# Altium schematic symbol library IC.SchLib: 188 symbols (part 2 of 2)
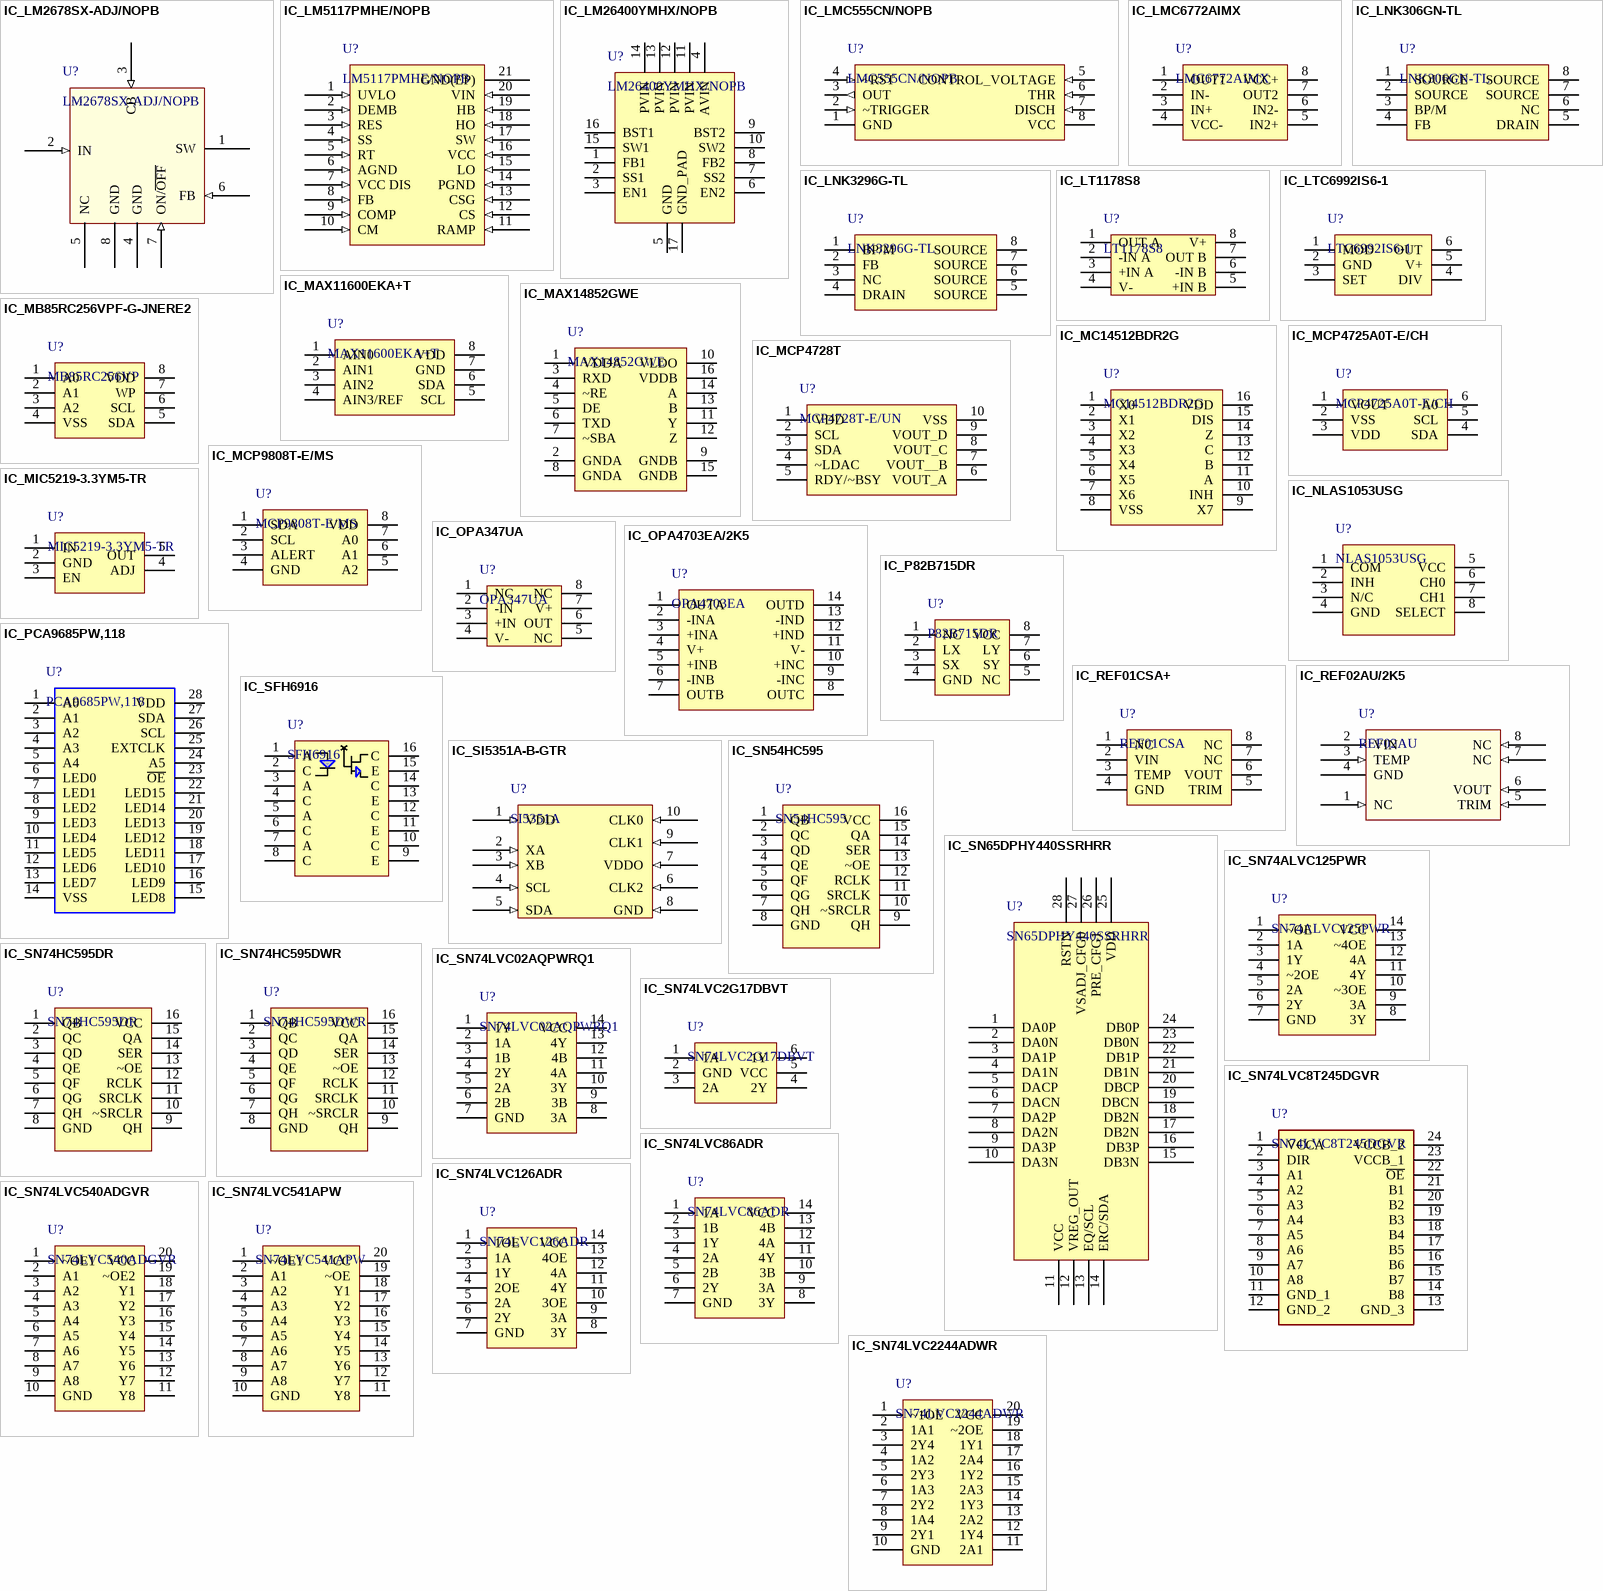
[diagram p7: symbols IC_LM2678SX-ADJ/NOPB to IC_SN74LVC2244ADWR]

## IC_SI5351A-B-GTR
designator U?, comment SI5351A
Clock Generators & Support Products I2C Prog, Any Frequency, Any Output, Xtal Ref, 3-Output LVCMOS Clock Gen; Manufacturer: Silicon Labs; Manufacturer Part Number: SI5351A-B-GTR; Alternate Part Number-1: NA; Case/Package: SSOP10; Supplier-1: ARROW; Supplier Part Number-1: SI5351A-B-GTR
footprint SSOP10_19_236_55X11_SMD
pins: 1 VDD (in), 2 XA (in), 3 XB (in), 4 SCL (in), 5 SDA (in), 6 CLK2 (in), 7 VDDO (in), 8 GND (in), 9 CLK1 (in), 10 CLK0 (in)

## IC_SN54HC595
designator U?, comment SN54HC595
Parallel-out shift register IC_SN54HC595 The SNx4HC595 devices contain an 8-bit, serial-in, / 1• 8-Bit Serial-In; Manufacturer: Texas Instruments; Alternate Part Number-1: NA; Manufacturer Part Number: SN54HC595; Case/Package: TSSOP16; Supplier-1: ARROW; Supplier Part Number-1: SN54HC595
footprint TSSOP16_25-59_294_54X14_SMT (TSOP, 16-Leads, Body 5.00x4.40mm, Pitch 0.65mm)
pins: 1 QB, 2 QC, 3 QD, 4 QE, 5 QF, 6 QG, 7 QH, 8 GND, 9 QH, 10 ~SRCLR, 11 SRCLK, 12 RCLK, 13 ~OE, 14 SER, 15 QA, 16 VCC

## IC_SN65DPHY440SSRHRR
designator U?, comment SN65DPHY440SSRHRR
Video IC 28-WQFN (5.5x3.5) Package; Manufacturer: Texas Instruments; Alternate Part Number-1: NA; Manufacturer Part Number: SN65DPHY440SSRHRR; Case/Package: 28-WQFN; Supplier-1: Digikey; Supplier Part Number-1: 296-44524-1-ND
footprint WQFN-28_19.7_186_33.8X10_SMD (WQFN Package)
pins: 1 DA0P, 2 DA0N, 3 DA1P, 4 DA1N, 5 DACP, 6 DACN, 7 DA2P, 8 DA2N, 9 DA3P, 10 DA3N, 11 VCC, 12 VREG_OUT, 13 EQ/SCL, 14 ERC/SDA, 15 DB3N, 16 DB3P, 17 DB2N, 18 DB2N, 19 DBCN, 20 DBCP, 21 DB1N, 22 DB1P, 23 DB0N, 24 DB0P, 25 VDD, 26 PRE_CFG1, 27 VSADJ_CFG0, 28 RSTN

## IC_SN74ALVC125PWR
designator U?, comment SN74ALVC125PWR
Buffer, Non-Inverting 4 Element 1 Bit per Element 3-State Output 14-TSSOP; Manufacturer: Texas Instruments; Alternate Part Number-1: NA; Manufacturer Part Number: SN74ALVC125PWR; Case/Package: TSSOP14; Supplier-1: ARROW; Supplier Part Number-1: SN74ALVC125PWR
footprint TSSOP14_25.6_296_15X55_SMD (CASE: TSSOP)
pins: 1 ~OE, 2 1A, 3 1Y, 4 ~2OE, 5 2A, 6 2Y, 7 GND, 8 3Y, 9 3A, 10 ~3OE, 11 4Y, 12 4A, 13 ~4OE, 14 VCC

## IC_SN74HC595DR
designator U?, comment SN74HC595DR
Shift Shift Register 1 Element 8 Bit 16-SOIC; Manufacturer: TI; Alternate Part Number-1: NA; Manufacturer Part Number: SN74HC595DR; Case/Package: 16-SOIC; Supplier-1: Digikey; Supplier Part Number-1: 296-14857-1-ND
footprint SOIC16_50_284_25X90_SMT
pins: 1 QB, 2 QC, 3 QD, 4 QE, 5 QF, 6 QG, 7 QH, 8 GND, 9 QH, 10 ~SRCLR, 11 SRCLK, 12 RCLK, 13 ~OE, 14 SER, 15 QA, 16 VCC

## IC_SN74HC595DWR
designator U?, comment SN74HC595DWR
Shift Shift Register 1 Element 8 Bit 16-SOIC; Manufacturer: Texas Instruments; Alternate Part Number-1: NA; Manufacturer Part Number: SN74HC595DWR; Case/Package: SOICW-16; Supplier-1: ARROW; Supplier Part Number-1: SN74HC595DWR
footprint SOICW16_50_440_25X76_SMT (SOICW)
pins: 1 QB, 2 QC, 3 QD, 4 QE, 5 QF, 6 QG, 7 QH, 8 GND, 9 QH, 10 ~SRCLR, 11 SRCLK, 12 RCLK, 13 ~OE, 14 SER, 15 QA, 16 VCC

## IC_SN74LVC02AQPWRQ1
designator U?, comment SN74LVC02AQPWRQ1
NOR Gate IC 4 Channel 14-TSSOP; Manufacturer: Texas Instruments; Alternate Part Number-1: NA; Manufacturer Part Number: SN74LVC02AQPWRQ1; Case/Package: TSSOP-14; Supplier-1: Arrow; Supplier Part Number-1: SN74LVC02AQPWRQ1
footprint TSSOP14_25.6_296_15X55_SMD (CASE: TSSOP)
pins: 1 1Y, 2 1A, 3 1B, 4 2Y, 5 2A, 6 2B, 7 GND, 8 3A, 9 3B, 10 3Y, 11 4A, 12 4B, 13 4Y, 14 VCC

## IC_SN74LVC2G17DBVT
designator U?, comment SN74LVC2G17DBVT
Buffer, Non-Inverting 2 Element 1 Bit per Element Push-Pull Output SOT-23-6; Manufacturer: Texas Instruments; Alternate Part Number-1: NA; Manufacturer Part Number: SN74LVC2G17DBVT; Case/Package: SOT23-6; Supplier-1: ARROW; Supplier Part Number-1: SN74LVC2G17DBVT
footprint SOT23-6
pins: 1 1A, 2 GND, 3 2A, 4 2Y, 5 VCC, 6 1Y

## IC_SN74LVC8T245DGVR
designator U?, comment SN74LVC8T245DGVR
Voltage Level Translator Bidirectional 1 Circuit 8 Channel 24-TVSOP; Manufacturer: Texas Instruments; Alternate Part Number-1: NA; Manufacturer Part Number: SN74LVC8T245DGVR; Case/Package: 24TVSOP; Supplier-1: ARROW; Supplier Part Number-1: SN74LVC8T245DGVR
footprint TVSOP-24_15.7_290_58x7.7_smd (IC TRNSLTR BIDIRECTIONAL 24TVSOP)
pins: 1 VCCA, 2 DIR, 3 A1, 4 A2, 5 A3, 6 A4, 7 A5, 8 A6, 9 A7, 10 A8, 11 GND_1, 12 GND_2, 13 GND_3, 14 B8, 15 B7, 16 B6, 17 B5, 18 B4, 19 B3, 20 B2, 21 B1, 22 ~{OE}, 23 VCCB_1, 24 VCCB_2

## IC_SN74LVC86ADR
designator U?, comment SN74LVC86ADR
XOR (Exclusive OR) IC 4 Channel 14-SOIC; Manufacturer: Texas Instruments; Alternate Part Number-1: NA; Manufacturer Part Number: SN74LVC86ADR; Case/Package: 14-SOIC; Supplier-1: Arrow; Supplier Part Number-1: SN74LVC86ADR
footprint SOIC14_50_285_80X25_SMT (SOIC, 14-Leads, Body 8.56x3.90mm, Pitch 1.27mm, IPC Medium Density)
pins: 1 1A, 2 1B, 3 1Y, 4 2A, 5 2B, 6 2Y, 7 GND, 8 3Y, 9 3A, 10 3B, 11 4Y, 12 4A, 13 4B, 14 VCC

## IC_SN74LVC126ADR
designator U?, comment SN74LVC126ADR
Buffer, Non-Inverting 4 Element 1 Bit per Element 3-State Output 14-SOIC; Manufacturer: Texas Instruments; Alternate Part Number-1: NA; Manufacturer Part Number: SN74LVC126ADR; Case/Package: SOIC-14; Supplier-1: Arrow; Supplier Part Number-1: SN74LVC126ADR
footprint SOIC14_50_285_80X25_SMT (SOIC, 14-Leads, Body 8.56x3.90mm, Pitch 1.27mm, IPC Medium Density)
pins: 1 1OE, 2 1A, 3 1Y, 4 2OE, 5 2A, 6 2Y, 7 GND, 8 3Y, 9 3A, 10 3OE, 11 4Y, 12 4A, 13 4OE, 14 VCC

## IC_SN74LVC540ADGVR
designator U?, comment SN74LVC540ADGVR
Buffer, Inverting 1 Element 8 Bit per Element 3-State Output 20-TVSOP; Manufacturer: Texas Instruments; Alternate Part Number-1: NA; Manufacturer Part Number: SN74LVC540ADGVR; Case/Package: TVSOP-20; Supplier-1: Arrow; Supplier Part Number-1: SN74LVC540ADGVR
footprint TVSOP20_15.74_303_9x82.6_SMD (TVSOP Package)
pins: 1 ~OE1, 2 A1, 3 A2, 4 A3, 5 A4, 6 A5, 7 A6, 8 A7, 9 A8, 10 GND, 11 Y8, 12 Y7, 13 Y6, 14 Y5, 15 Y4, 16 Y3, 17 Y2, 18 Y1, 19 ~OE2, 20 VCC

## IC_SN74LVC541APW
designator U?, comment SN74LVC541APW
Buffer/Line Driver 8-CH Non-Inverting 3-ST CMOS 20-Pin TSSOP Tube; Manufacturer: Texas Instruments; Alternate Part Number-1: NA; Manufacturer Part Number: SN74LVC541APW; Case/Package: TSSOP-20; Supplier-1: Arrow; Supplier Part Number-1: SN74LVC541APW
footprint TSSOP20_25-59_292_12X65_SMT
pins: 1 ~OE1, 2 A1, 3 A2, 4 A3, 5 A4, 6 A5, 7 A6, 8 A7, 9 A8, 10 GND, 11 Y8, 12 Y7, 13 Y6, 14 Y5, 15 Y4, 16 Y3, 17 Y2, 18 Y1, 19 ~OE, 20 VCC

## IC_SN74LVC2244ADWR
designator U?, comment SN74LVC2244ADWR
Buffer, Non-Inverting 2 Element 4 Bit per Element 3-State Output 20-SOIC; Manufacturer: Texas Instruments; Alternate Part Number-1: NA; Manufacturer Part Number: SN74LVC2244ADWR; Case/Package: SOIC-20; Supplier-1: Digikey; Supplier Part Number-1: 296-8490-1-ND
footprint SOIC20_50_284_25X90_SMT
pins: 1 ~1OE, 2 1A1, 3 2Y4, 4 1A2, 5 2Y3, 6 1A3, 7 2Y2, 8 1A4, 9 2Y1, 10 GND, 11 2A1, 12 1Y4, 13 2A2, 14 1Y3, 15 2A3, 16 1Y2, 17 2A4, 18 1Y1, 19 ~2OE, 20 VCC

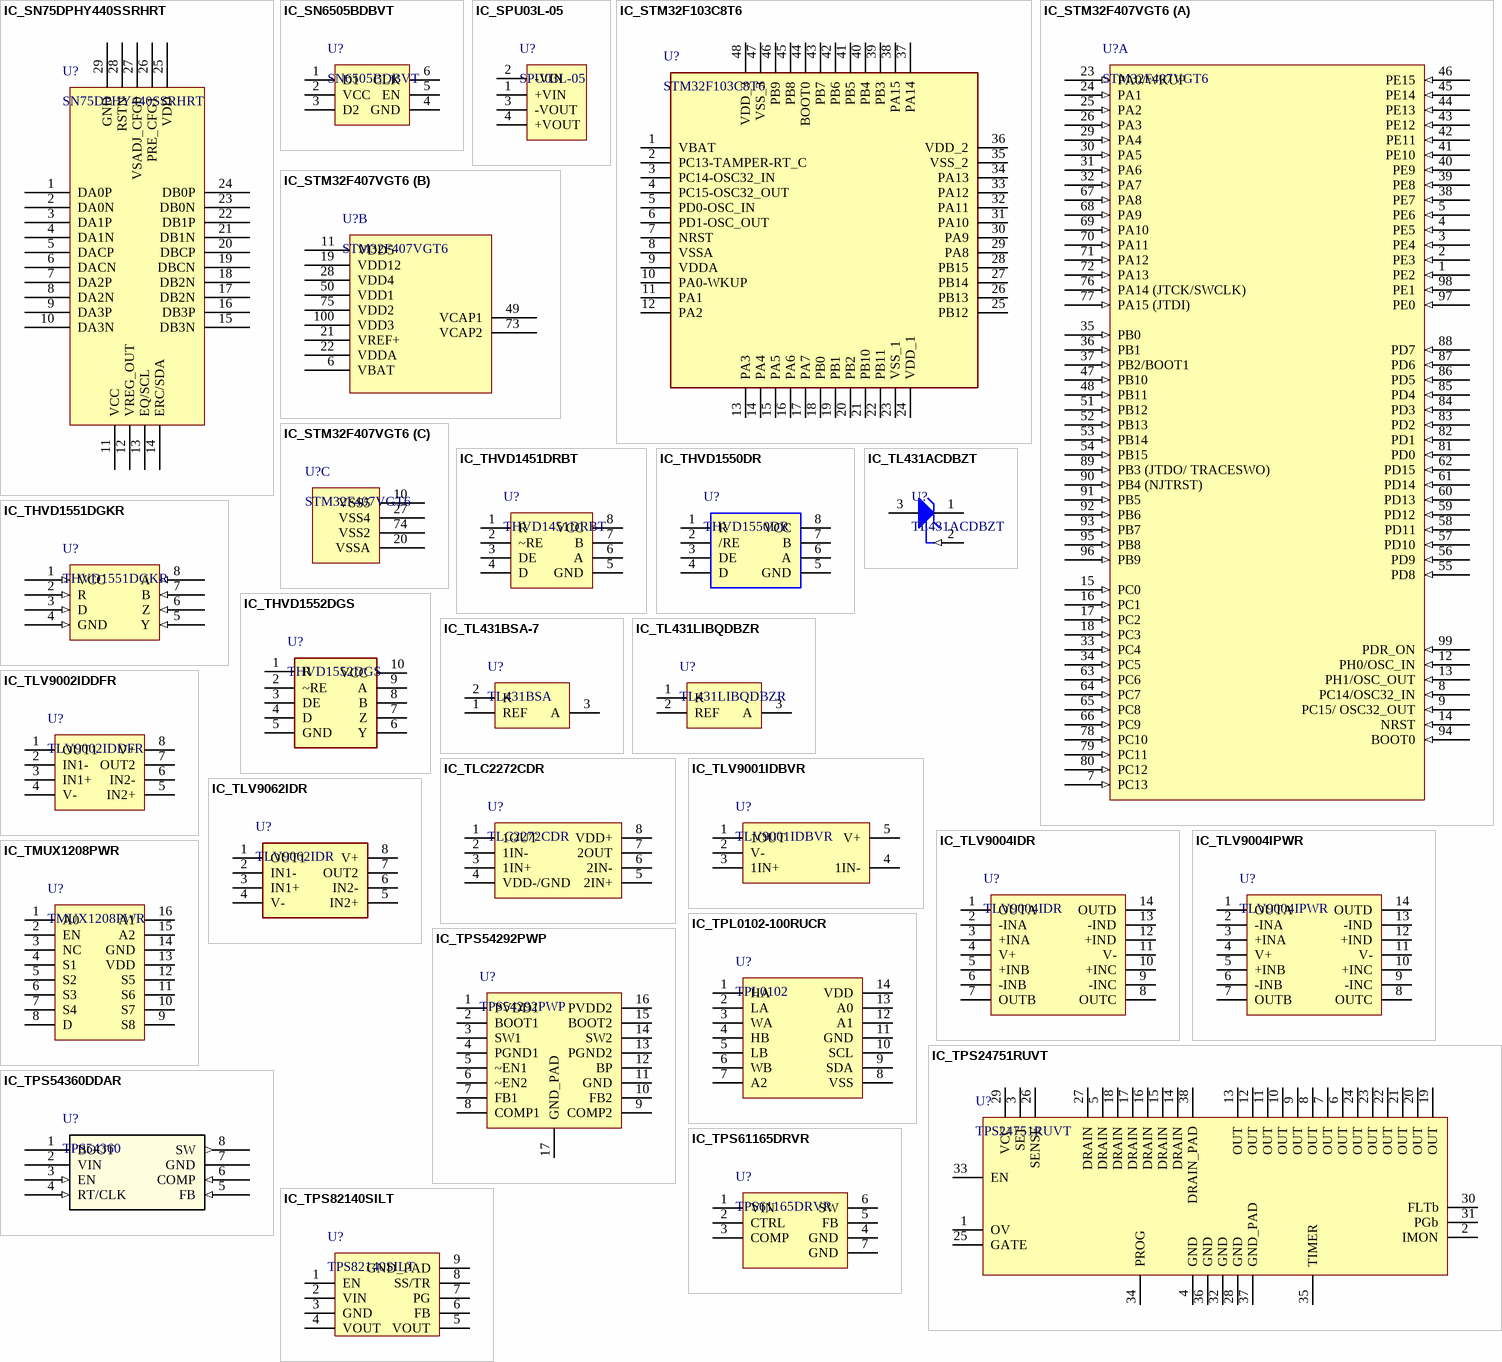
[diagram p4: symbols IC_SN75DPHY440SSRHRT to IC_TPS82140SILT]

## IC_SN75DPHY440SSRHRT
designator U?, comment SN75DPHY440SSRHRT
Video IC 28-WQFN (5.5x3.5) Package; Manufacturer: Texas Instruments; Alternate Part Number-1: NA; Manufacturer Part Number: SN75DPHY440SSRHRT; Case/Package: 28-WQFN; Supplier-1: Digikey; Supplier Part Number-1: 296-44524-1-ND
footprint WQFN-28_19.7_186_33.8X10_SMD (WQFN Package)
pins: 1 DA0P, 2 DA0N, 3 DA1P, 4 DA1N, 5 DACP, 6 DACN, 7 DA2P, 8 DA2N, 9 DA3P, 10 DA3N, 11 VCC, 12 VREG_OUT, 13 EQ/SCL, 14 ERC/SDA, 15 DB3N, 16 DB3P, 17 DB2N, 18 DB2N, 19 DBCN, 20 DBCP, 21 DB1N, 22 DB1P, 23 DB0N, 24 DB0P, 25 VDD, 26 PRE_CFG1, 27 VSADJ_CFG0, 28 RSTN, 29 GND

## IC_SN6505BDBVT
designator U?, comment SN6505BDBVT
Transformer Driver PMIC SOT-23-6; Manufacturer: Texas Instruments; Alternate Part Number-1: NA; Manufacturer Part Number: SN6505BDBVT; Case/Package: SOT23-6; Supplier-1: ARROW; Supplier Part Number-1: SN6505BDBVT
footprint SOT23-6 (CASE: SOT)
pins: 1 D1, 2 VCC, 3 D2, 4 GND, 5 EN, 6 CLK

## IC_SPU03L-05
designator U?, comment SPU03L-05
Isolated Module DC DC Converter 1 Output 5V 600mA 4.5V - 5.5V Input; Manufacturer: Mean Well; Alternate Part Number-1: NA; Manufacturer Part Number: SPU03L-05; Case/Package: SPU03L-TH; Supplier-1: ARROW; Supplier Part Number-1: SPU03L-05
footprint SPU03L-05_100_787_35D70_TH (SPU03)
pins: 1 +VIN, 2 -VIN, 3 -VOUT, 4 +VOUT

## IC_STM32F103C8T6
designator U?, comment STM32F103C8T6
ARM® Cortex®-M3 STM32F1 Microcontroller IC 32-Bit 72MHz 64KB (64K x 8) FLASH 48-LQFP (7x7) /; Manufacturer: STMicroelectronics; Alternate Part Number-1: NA; Manufacturer Part Number: STM32F103C8T6; Case/Package: LQFP48; Supplier-1: LCSC; Supplier Part Number-1: STM32F103C8T6
footprint LQFP-48_19.6_393_58X11_SMD (48LQFP)
pins: 1 VBAT, 2 PC13-TAMPER-RT_C, 3 PC14-OSC32_IN, 4 PC15-OSC32_OUT, 5 PD0-OSC_IN, 6 PD1-OSC_OUT, 7 NRST, 8 VSSA, 9 VDDA, 10 PA0-WKUP, 11 PA1, 12 PA2, 13 PA3, 14 PA4, 15 PA5, 16 PA6, 17 PA7, 18 PB0, 19 PB1, 20 PB2, 21 PB10, 22 PB11, 23 VSS_1, 24 VDD_1, 25 PB12, 26 PB13, 27 PB14, 28 PB15, 29 PA8, 30 PA9, 31 PA10, 32 PA11, 33 PA12, 34 PA13, 35 VSS_2, 36 VDD_2, 37 PA14, 38 PA15, 39 PB3, 40 PB4, 41 PB5, 42 PB6, 43 PB7, 44 BOOT0, 45 PB8, 46 PB9, 47 VSS_3, 48 VDD_3

## IC_STM32F407VGT6
designator U?, comment STM32F407VGT6
ARM® Cortex®-M4 STM32F4 Microcontroller IC 32-Bit 168MHz 1MB (1M x 8) FLASH 100-LQFP (14x14) /; Manufacturer: STMicroelectronics; Alternate Part Number-1: STM32F407VET6; Manufacturer Part Number: STM32F407VGT6; Case/Package: LQFP100; Supplier-1: ARROW; Supplier Part Number-1: STM32F407VGT6
footprint QFN100_19.6_669_58X10_SMD (CASE: QFN)
part A pins: 1 PE2 (in), 2 PE3 (in), 3 PE4 (in), 4 PE5 (in), 5 PE6 (in), 7 PC13 (in), 8 PC14/OSC32_IN (in), 9 PC15/ OSC32_OUT (in), 12 PH0/OSC_IN (in), 13 PH1/OSC_OUT (in), 14 NRST (in), 15 PC0 (in), 16 PC1 (in), 17 PC2 (in), 18 PC3 (in), 23 PA0/WKUP (in), 24 PA1 (in), 25 PA2 (in), 26 PA3 (in), 29 PA4 (in), 30 PA5 (in), 31 PA6 (in), 32 PA7 (in), 33 PC4 (in), 34 PC5 (in), 35 PB0 (in), 36 PB1 (in), 37 PB2/BOOT1 (in), 38 PE7 (in), 39 PE8 (in), 40 PE9 (in), 41 PE10 (in), 42 PE11 (in), 43 PE12 (in), 44 PE13 (in), 45 PE14 (in), 46 PE15 (in), 47 PB10 (in), 48 PB11 (in), 51 PB12 (in), 52 PB13 (in), 53 PB14 (in), 54 PB15 (in), 55 PD8 (in), 56 PD9 (in), 57 PD10 (in), 58 PD11 (in), 59 PD12 (in), 60 PD13 (in), 61 PD14 (in), 62 PD15 (in), 63 PC6 (in), 64 PC7 (in), 65 PC8 (in), 66 PC9 (in), 67 PA8 (in), 68 PA9 (in), 69 PA10 (in), 70 PA11 (in), 71 PA12 (in), 72 PA13 (in), 76 PA14 (JTCK/SWCLK) (in), 77 PA15 (JTDI) (in), 78 PC10 (in), 79 PC11 (in), 80 PC12 (in), 81 PD0 (in), 82 PD1 (in), 83 PD2 (in), 84 PD3 (in), 85 PD4 (in), 86 PD5 (in), 87 PD6 (in), 88 PD7 (in), 89 PB3 (JTDO/ TRACESWO) (in), 90 PB4 (NJTRST) (in), 91 PB5 (in), 92 PB6 (in), 93 PB7 (in), 94 BOOT0 (in), 95 PB8 (in), 96 PB9 (in), 97 PE0 (in), 98 PE1 (in), 99 PDR_ON (in)
part B pins: 6 VBAT, 11 VDD5, 19 VDD12, 21 VREF+, 22 VDDA, 28 VDD4, 49 VCAP1, 50 VDD1, 73 VCAP2, 75 VDD2, 100 VDD3
part C pins: 10 VSS5, 20 VSSA, 27 VSS4, 74 VSS2

## IC_THVD1451DRBT
designator U?, comment THVD1451DRBT
1/1 Transceiver Full RS485 8-VSON (3x3); Manufacturer: Texas Instruments; Alternate Part Number-1: NA; Manufacturer Part Number: THVD1451DRBT; Case/Package: 8-SOIC; Supplier-1: Mouser; Supplier Part Number-1: 595-THVD1451DRBR
footprint SOIC8_50_328_25X90_SMT (SOIC)
pins: 1 R, 2 ~RE, 3 DE, 4 D, 5 GND, 6 A, 7 B, 8 VCC

## IC_THVD1550DR
designator U?, comment THVD1550DR
1/1 Transceiver Half RS485 8-SOIC; Manufacturer: Texas Instruments; Alternate Part Number-1: NA; Manufacturer Part Number: THVD1550DR; Case/Package: SOIC8; Supplier-1: MOUSER; Supplier Part Number-1: THVD1550DR
footprint SOIC8_50_328_25X90_SMT (SOIC)
pins: 1 R, 2 /RE, 3 DE, 4 D, 5 GND, 6 A, 7 B, 8 VCC

## IC_THVD1551DGKR
designator U?, comment THVD1551DGKR
1/1 Transceiver Full RS485 8-VSSOP; Manufacturer: Texas Instruments; Alternate Part Number-1: NA; Manufacturer Part Number: THVD1551DGKR; Case/Package: SOIC8; Supplier-1: MOUSER; Supplier Part Number-1: THVD1551DGKR
footprint SOIC8_50_328_25X90_SMT (SOIC)
pins: 1 VCC (in), 2 R (in), 3 D (in), 4 GND (in), 5 Y (in), 6 Z (in), 7 B (in), 8 A (in)

## IC_THVD1552DGS
designator U?, comment THVD1552DGS
1/1 Transceiver Full RS485 10-VSSOP; Manufacturer: Texas Instruments; Alternate Part Number-1: NA; Manufacturer Part Number: THVD1552DGS; Case/Package: SSOP10; Supplier-1: MOUSER; Supplier Part Number-1: THVD1552DGS
footprint SSOP10_19_236_55X11_SMD (CASE: SSOP)
pins: 1 R, 2 ~RE, 3 DE, 4 D, 5 GND, 6 Y, 7 Z, 8 B, 9 A, 10 VCC

## IC_TL431ACDBZT
designator U?, comment TL431ACDBZT
Shunt Voltage Reference IC 36V ±1% SOT-23-3 /; Manufacturer: Texas Instruments; Alternate Part Number-1: NA; Manufacturer Part Number: TL431ACDBZT; Case/Package: SOT-23; Supplier-1: Mouser; Supplier Part Number-1: 595-TL431ACDBZT
footprint SOT 23-3 (Case: SOT23)
pins: 1 CATHODE, 2 REF (in), 3 ANODE

## IC_TL431BSA-7
designator U?, comment TL431BSA
Shunt Voltage Reference IC 36V ±0.5% SOT-23-3 /; Manufacturer: Diodes; Manufacturer Part Number: TL431BSA-7; Alternate Part Number-1: NA; Case/Package: SOT-23; Supplier-1: Mouser; Supplier Part Number-1: 621-TL431BSA-7
footprint SOT 23-3
pins: 1 REF, 2 K, 3 A

## IC_TL431LIBQDBZR
designator U?, comment TL431LIBQDBZR
Shunt Voltage Reference IC 36V ±0.5% SOT-23-3 /; Manufacturer: Texas Instruments; Alternate Part Number-1: NA; Manufacturer Part Number: TL431LIBQDBZR; Case/Package: SOT-23-3; Supplier-1: Mouser; Supplier Part Number-1: 595-TL431LIBQDBZR
footprint SOT 23-3 (Case: SOT23)
pins: 1 K, 2 REF, 3 A

## IC_TLC2272CDR
designator U?, comment TLC2272CDR
General Purpose Amplifier 2 Circuit Rail-to-Rail 8-SOIC; Manufacturer: Texas Instruments; Alternate Part Number-1: NA; Manufacturer Part Number: TLC2272CDR; Case/Package: SOIC8; Supplier-1: LCSC; Supplier Part Number-1: C6979
footprint SOIC8_50_328_25X90_SMT (SOIC)
pins: 1 1OUT, 2 1IN-, 3 1IN+, 4 VDD-/GND, 5 2IN+, 6 2IN-, 7 2OUT, 8 VDD+

## IC_TLV9001IDBVR
designator U?, comment TLV9001IDBVR
CMOS Amplifier 1 Circuit Rail-to-Rail SOT-23-5; Manufacturer: Texas Instruments; Alternate Part Number-1: NA; Manufacturer Part Number: TLV9001IDBVR; Case/Package: SOT-23-5; Supplier-1: Mouser; Supplier Part Number-1: TLV9001IDBVR
footprint SOT23-5 (CASE: SOT)
pins: 1 1OUT, 2 V-, 3 1IN+, 4 1IN-, 5 V+

## IC_TLV9002IDDFR
designator U?, comment TLV9002IDDFR
Operational Amplifiers - Op Amps 2-Channel, 1MHz, RRIO, 1.8V to 5.5V Operational Amplifier for Cost-Optimized Systems 8-SOT-23-THIN -40 to 125; Manufacturer: Texas Instruments; Alternate Part Number-1: NA; Manufacturer Part Number: TLV9002IDDFR; Case/Package: SOT-23-8; Supplier-1: Mouser; Supplier Part Number-1: 595-TLV9002IDDFR
footprint SOT23-8 (Case-SOT)
pins: 1 OUT1, 2 IN1-, 3 IN1+, 4 V-, 5 IN2+, 6 IN2-, 7 OUT2, 8 V+

## IC_TLV9004IDR
designator U?, comment TLV9004IDR
CMOS Amplifier 4 Circuit Rail-to-Rail 14-SOIC; Manufacturer: Texas Instruments; Alternate Part Number-1: NA; Manufacturer Part Number: TLV9004IDR; Case/Package: 14-SOIC; Supplier-1: Digikey; Supplier Part Number-1: 296-51826-1-ND
footprint SOIC14_50_285_80X25_SMT (SOIC, 14-Leads, Body 8.56x3.90mm, Pitch 1.27mm, IPC Medium Density)
pins: 1 OUTA, 2 -INA, 3 +INA, 4 V+, 5 +INB, 6 -INB, 7 OUTB, 8 OUTC, 9 -INC, 10 +INC, 11 V-, 12 +IND, 13 -IND, 14 OUTD

## IC_TLV9004IPWR
designator U?, comment TLV9004IPWR
CMOS Amplifier 4 Circuit Rail-to-Rail TSSOP14; Manufacturer: Texas Instruments; Alternate Part Number-1: NA; Manufacturer Part Number: TLV9004IPWR; Case/Package: TSSOP14; Supplier-1: MOUSER; Supplier Part Number-1: TLV9004IPWR
footprint TSSOP14_25.6_296_15X55_SMD (CASE: TSSOP)
pins: 1 OUTA, 2 -INA, 3 +INA, 4 V+, 5 +INB, 6 -INB, 7 OUTB, 8 OUTC, 9 -INC, 10 +INC, 11 V-, 12 +IND, 13 -IND, 14 OUTD

## IC_TLV9062IDR
designator U?, comment TLV9062IDR
CMOS Amplifier 2 Circuit Rail-to-Rail 8-VSSOP; Manufacturer: Texas Instruments; Alternate Part Number-1: NA; Manufacturer Part Number: TLV9062IDR; Case/Package: SOIC8; Supplier-1: MOUSER; Supplier Part Number-1: TLV9062IDR
footprint SOIC8_50_328_25X90_SMT (SOIC)
pins: 1 OUT1, 2 IN1-, 3 IN1+, 4 V-, 5 IN2+, 6 IN2-, 7 OUT2, 8 V+

## IC_TMUX1208PWR
designator U?, comment TMUX1208PWR
1 Circuit IC Switch 8:1 3Ohm (Typ) 16-TSSOP; Manufacturer: Texas Instruments; Alternate Part Number-1: NA; Manufacturer Part Number: TMUX1208PWR; Case/Package: TSSOP-16; Supplier-1: Mouser; Supplier Part Number-1: 595-TMUX1208PWR
footprint TSSOP16_25-59_294_54X14_SMT (TSOP, 16-Leads, Body 5.00x4.40mm, Pitch 0.65mm)
pins: 1 A0, 2 EN, 3 NC, 4 S1, 5 S2, 6 S3, 7 S4, 8 D, 9 S8, 10 S7, 11 S6, 12 S5, 13 VDD, 14 GND, 15 A2, 16 A1

## IC_TPL0102-100RUCR
designator U?, comment TPL0102
Digital Potentiometer 100k Ohm 2 Circuit 256 Taps I²C Interface 14-TSSOP /; Manufacturer: Texas Instruments; Manufacturer Part Number: TPL0102-100QPWREP; Alternate Part Number-1: NA; Case/Package: TSSOP14; Supplier-1: Mouser; Supplier Part Number-1: 595-TPL0102100QPWREP
footprint TSSOP14_25.6_296_15X55_SMD (CASE: TSSOP)
pins: 1 HA, 2 LA, 3 WA, 4 HB, 5 LB, 6 WB, 7 A2, 8 VSS, 9 SDA, 10 SCL, 11 GND, 12 A1, 13 A0, 14 VDD

## IC_TPS24751RUVT
designator U?, comment TPS24751RUVT
Hot Swap Controller 1 Channel General Purpose 36-VQFN (7x3.5); Manufacturer: Texas Instruments; Alternate Part Number-1: NA; Manufacturer Part Number: TPS24751RUVT; Case/Package: 36-VFQFN Exposed Pad; Supplier-1: Arrow; Supplier Part Number-1: TPS24751RUVT
footprint VQFN36_19.6_332_11X39_SMD (QFN, 36-Leads, Body 7.15x3.65mm, Pitch 0.50mm, Thermal Pad 6.30x2.20mm, IPC Medium Density)
pins: 1 OV, 2 IMON, 3 SET, 4 GND, 5 DRAIN, 6 OUT, 7 OUT, 8 OUT, 9 OUT, 10 OUT, 11 OUT, 12 OUT, 13 OUT, 14 DRAIN, 15 DRAIN, 16 DRAIN, 17 DRAIN, 18 DRAIN, 19 OUT, 20 OUT, 21 OUT, 22 OUT, 23 OUT, 24 OUT, 25 GATE, 26 SENSE, 27 DRAIN, 28 GND, 29 VCC, 30 FLTb, 31 PGb, 32 GND, 33 EN, 34 PROG, 35 TIMER, 36 GND, 37 GND_PAD, 38 DRAIN_PAD

## IC_TPS54292PWP
designator U?, comment TPS54292PWP
Buck Switching Regulator IC Positive Adjustable 0.8V 2 Output 1.5A, 2.5A 16-PowerTSSOP (0.173", 4.40mm Width); Manufacturer: Texas Instruments; Alternate Part Number-1: NA; Manufacturer Part Number: TPS54292PWP; Case/Package: HTSSOP EP-16; Supplier-1: MOUSER; Supplier Part Number-1: TPS54292PWP
footprint HTSSOP-16_26_307_59X17_SMD (16-PowerTSSOP)
pins: 1 PVDD1, 2 BOOT1, 3 SW1, 4 PGND1, 5 ~EN1, 6 ~EN2, 7 FB1, 8 COMP1, 9 COMP2, 10 FB2, 11 GND, 12 BP, 13 PGND2, 14 SW2, 15 BOOT2, 16 PVDD2, 17 GND_PAD

## IC_TPS54360DDAR
designator U?, comment TPS54360
Buck, Split Rail Switching Regulator IC Positive Adjustable 0.8V 1 Output 3.5A 8-PowerSOIC (0.154", 3.90mm Width); Manufacturer: Texas Instruments; Manufacturer Part Number: TPS54360DDAR; Alternate Part Number-1: NA; Case/Package: SOIC8; Supplier-1: LCSC; Supplier Part Number-1: C44377
footprint SOIC8_50_328_25X90_SMT (SOIC)
pins: 1 BOOT, 2 VIN (power), 3 EN (in), 4 RT/CLK (in), 5 FB (in), 6 COMP (in), 7 GND (power), 8 SW (out)

## IC_TPS61165DRVR
designator U?, comment TPS61165DRVR
LED Driver IC 1 Output DC DC Regulator Step-Up (Boost) PWM Dimming 1.2A (Switch) 6-WSON (2x2); Manufacturer: Texas Instruments; Alternate Part Number-1: NA; Manufacturer Part Number: TPS61165DRVR; Case/Package: WSON-6; Supplier-1: Digikey; Supplier Part Number-1: TPS61165DRVR
footprint WSON-6_25_126_23X13_SMD (diode)
pins: 1 VIN, 2 CTRL, 3 COMP, 4 GND, 5 FB, 6 SW, 7 GND

## IC_TPS82140SILT
designator U?, comment TPS82140SILT
Non-Isolated PoL Module DC DC Converter 1 Output 0.9 ~ 6V 2A 3V - 17V Input; Manufacturer: Texas Instruments; Alternate Part Number-1: NA; Manufacturer Part Number: TPS82140SILT; Case/Package: SIL0008D; Supplier-1: RS COMP; Supplier Part Number-1: TPS82140SILT
footprint SIL0008D_25.6_118_19x15_SMD (8-LDFN Exposed Pad, Module)
pins: 1 EN, 2 VIN, 3 GND, 4 VOUT, 5 VOUT, 6 FB, 7 PG, 8 SS/TR, 9 GND_PAD

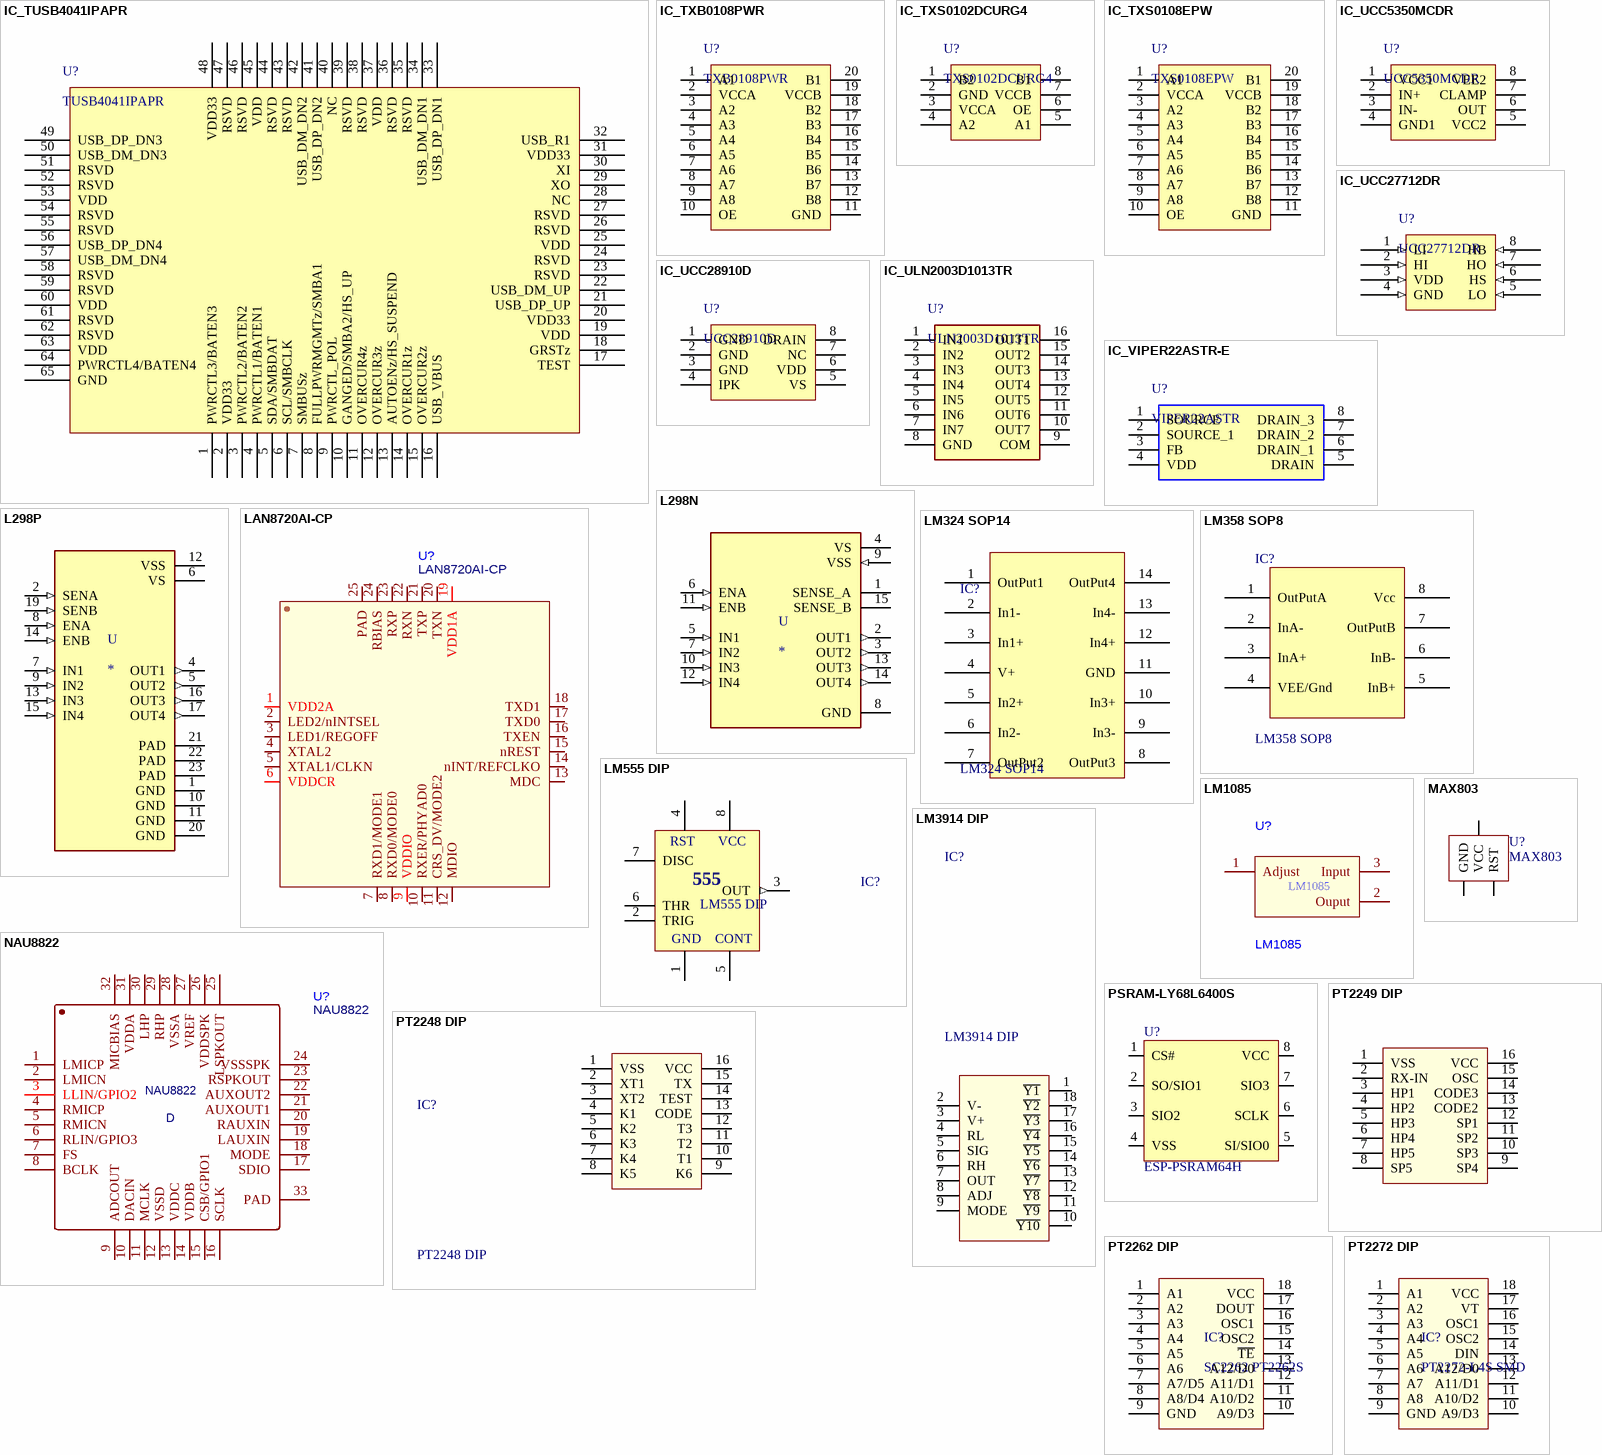
[diagram p5: symbols IC_TUSB4041IPAPR to PT2272 DIP]

## IC_TUSB4041IPAPR
designator U?, comment TUSB4041IPAPR
USB Hub Controller USB 2.0 USB Interface 64-HTQFP (10x10); Manufacturer: Texas Instruments; Alternate Part Number-1: NA; Manufacturer Part Number: TUSB4041IPAPR; Case/Package: 64-HTQFP (10x10); Supplier-1: LCSC; Supplier Part Number-1: C192089
footprint HTQFP-64_19.6_531_59X11_SMD (HTQFP package)
pins: 1 PWRCTL3/BATEN3, 2 VDD33, 3 PWRCTL2/BATEN2, 4 PWRCTL1/BATEN1, 5 SDA/SMBDAT, 6 SCL/SMBCLK, 7 SMBUSz, 8 FULLPWRMGMTz/SMBA1, 9 PWRCTL_POL, 10 GANGED/SMBA2/HS_UP , 11 OVERCUR4z, 12 OVERCUR3z, 13 AUTOENz/HS_SUSPEND, 14 OVERCUR1z, 15 OVERCUR2z , 16 USB_VBUS, 17 TEST, 18 GRSTz, 19 VDD, 20 VDD33, 21 USB_DP_UP, 22 USB_DM_UP, 23 RSVD, 24 RSVD, 25 VDD, 26 RSVD, 27 RSVD, 28 NC, 29 XO, 30 XI, 31 VDD33, 32 USB_R1, 33 USB_DP_DN1, 34 USB_DM_DN1, 35 RSVD, 36 RSVD, 37 VDD, 38 RSVD, 39 RSVD, 40 NC, 41 USB_DP_DN2, 42 USB_DM_DN2, 43 RSVD, 44 RSVD, 45 VDD, 46 RSVD, 47 RSVD, 48 VDD33, 49 USB_DP_DN3, 50 USB_DM_DN3, 51 RSVD, 52 RSVD, 53 VDD, 54 RSVD, 55 RSVD, 56 USB_DP_DN4, 57 USB_DM_DN4, 58 RSVD, 59 RSVD, 60 VDD, 61 RSVD, 62 RSVD, 63 VDD, 64 PWRCTL4/BATEN4, 65 GND

## IC_TXB0108PWR
designator U?, comment TXB0108PWR
Voltage Level Translator Bidirectional 1 Circuit 8 Channel 100Mbps 20-TSSOP; Manufacturer: Texas Instruments; Alternate Part Number-1: NA; Manufacturer Part Number: TXB0108PWR; Case/Package: TSSOP20; Supplier-1: Mouser; Supplier Part Number-1: 595-TXB0108PWR
footprint TSSOP20_25-59_292_12X65_SMT
pins: 1 A1, 2 VCCA, 3 A2, 4 A3, 5 A4, 6 A5, 7 A6, 8 A7, 9 A8, 10 OE, 11 GND, 12 B8, 13 B7, 14 B6, 15 B5, 16 B4, 17 B3, 18 B2, 19 VCCB, 20 B1

## IC_TXS0102DCURG4
designator U?, comment TXS0102DCURG4
Voltage Level Translator Bidirectional 1 Circuit 2 Channel 24Mbps 8-VSSOP; Manufacturer: Texas Instruments; Alternate Part Number-1: NA; Manufacturer Part Number: TXS0102DCURG4; Case/Package: VSSOP8; Supplier-1: Mouser; Supplier Part Number-1: TXS0102DCURG4
footprint VSSOP-8_19.6_157_33X11_SMD (VSSOP)
pins: 1 B2, 2 GND, 3 VCCA, 4 A2, 5 A1, 6 OE, 7 VCCB, 8 B1

## IC_TXS0108EPW
designator U?, comment TXS0108EPW
TXS0108E 8-Bit Bi-directional, Level-Shifting, Voltage Translator / for Open-Drain and Push-Pull Applications; Manufacturer: Texas Instruments; Alternate Part Number-1: NA; Manufacturer Part Number: TXS0108EPW; Case/Package: TSSOP-20; Supplier-1: Mouser; Supplier Part Number-1: 595-TXS0108EPWRG4
footprint TSSOP20_25-59_292_12X65_SMT
pins: 1 A1, 2 VCCA, 3 A2, 4 A3, 5 A4, 6 A5, 7 A6, 8 A7, 9 A8, 10 OE, 11 GND, 12 B8, 13 B7, 14 B6, 15 B5, 16 B4, 17 B3, 18 B2, 19 VCCB, 20 B1

## IC_UCC5350MCDR
designator U?, comment UCC5350MCDR
Gate Driver Capacitive Coupling 3000Vrms 1 Channel 8-SOIC; Manufacturer: Texas Instruments; Alternate Part Number-1: NA; Manufacturer Part Number: UCC5350MCDR; Case/Package: SOIC8; Supplier-1: MOUSER; Supplier Part Number-1: UCC5350MCDR
footprint SOIC8_50_328_25X90_SMT (SOIC)
pins: 1 VCC1, 2 IN+, 3 IN-, 4 GND1, 5 VCC2, 6 OUT, 7 CLAMP, 8 VEE2

## IC_UCC27712DR
designator U?, comment UCC27712DR
Half-Bridge Gate Driver IC 8-SOIC; Manufacturer: Texas Instruments; Alternate Part Number-1: NA; Manufacturer Part Number: UCC27712DR; Case/Package: SOIC8; Supplier-1: LCSC; Supplier Part Number-1: C269870
footprint SOIC8_50_328_25X90_SMT (SOIC)
pins: 1 LI (in), 2 HI (in), 3 VDD (in), 4 GND (in), 5 LO (in), 6 HS (in), 7 HO (in), 8 HB (in)

## IC_UCC28910D
designator U?, comment UCC28910D
Converter Offline Flyback Topology 420Hz ~ 115kHz 7-SOIC; Manufacturer: Texas Instruments; Alternate Part Number-1: NA; Manufacturer Part Number: UCC28910D; Case/Package: SOIC8; Supplier-1: ARROW; Supplier Part Number-1: UCC28910D
footprint SOIC8_50_328_25X90_SMT (SOIC)
pins: 1 GND, 2 GND, 3 GND, 4 IPK, 5 VS, 6 VDD, 7 NC, 8 DRAIN

## IC_ULN2003D1013TR
designator U?, comment ULN2003D1013TR
Bipolar (BJT) Transistor Array 7 NPN Darlington 50V 500mA Surface Mount 16-SO; Manufacturer: STMicroelectronics; Alternate Part Number-1: NA; Manufacturer Part Number: ULN2003D1013TR; Case/Package: SOIC16; Supplier-1: LCSC; Supplier Part Number-1: C61273
footprint SOIC16_50_284_25X90_SMT
pins: 1 IN1, 2 IN2, 3 IN3, 4 IN4, 5 IN5, 6 IN6, 7 IN7, 8 GND, 9 COM, 10 OUT7, 11 OUT6, 12 OUT5, 13 OUT4, 14 OUT3, 15 OUT2, 16 OUT1

## IC_VIPER22ASTR-E
designator U?, comment VIPER22ASTR
Converter Offline Flyback Topology 60kHz 8-SOIC; Manufacturer: STMicroelectronics; Manufacturer Part Number: VIPER22ASTR-E; Alternate Part Number-1: NA; Case/Package: SOIC8; Supplier-1: LCSC; Supplier Part Number-1: C9216
footprint SOIC8_50_328_25X90_SMT (SOIC)
pins: 1 SOURCE, 2 SOURCE_1, 3 FB, 4 VDD (power), 5 DRAIN, 6 DRAIN_1, 7 DRAIN_2, 8 DRAIN_3

## L298N
designator U
Half Bridge _4_ Driver DC Motors, Relays, Solenoids, Stepper Motors Bipolar 15-Multiwatt; MP: L298N; MF: STMicroelectronics; Package: Multiwatt-15 STMicroelectronics; Price: None; Availability: Unavailable; Value: *; SnapEDA_Link: https://www.snapeda.com/parts/L298N/STMicroelectronics/view-part/294022/?ref=snap
footprint L298N
footprint L298P
pins: 1 SENSE_A, 2 OUT1 (out), 3 OUT2 (out), 4 VS (power), 5 IN1 (in), 6 ENA (in), 7 IN2 (in), 8 GND (power), 9 VSS (in), 10 IN3 (in), 11 ENB (in), 12 IN4 (in), 13 OUT3 (out), 14 OUT4 (out), 15 SENSE_B

## L298P
designator U
Half Bridge (4) Driver DC Motors, Relays, Solenoids, Stepper Motors Bipolar PowerSO-20; MP: L298P; MF: STMicroelectronics; Value: *; SnapEDA_Link: https://www.snapeda.com/parts/L298P/STMicroelectronics/view-part/41344/?ref=snap; Digi-Key_Part_Number: 497-3624-2-ND; DigiKey-Purchase-URL: https://snapeda.com/shop?store=DigiKey&id=41344; Package: SO-20 STMicroelectronics
footprint L298P
pins: 1 GND, 2 SENA (in), 4 OUT1 (out), 5 OUT2 (out), 6 VS (power), 7 IN1 (in), 8 ENA (in), 9 IN2 (in), 10 GND, 11 GND, 12 VSS (power), 13 IN3 (in), 14 ENB (in), 15 IN4 (in), 16 OUT3 (out), 17 OUT4 (out), 19 SENB (in), 20 GND, 21 PAD, 22 PAD, 23 PAD

## LAN8720AI-CP
designator U?
footprint QFN24
pins: 1 VDD2A, 2 LED2/nINTSEL, 3 LED1/REGOFF, 4 XTAL2, 5 XTAL1/CLKN, 6 VDDCR, 7 RXD1/MODE1, 8 RXD0/MODE0, 9 VDDIO, 10 RXER/PHYAD0, 11 CRS_DV/MODE2, 12 MDIO, 13 MDC, 14 nINT/REFCLKO, 15 nREST, 16 TXEN, 17 TXD0, 18 TXD1, 19 VDD1A, 20 TXN, 21 TXP, 22 RXN, 23 RXP, 24 RBIAS, 25 PAD

## LM324 SOP14
designator IC?
Dán; Ma_Hang: MH002173; Don_Vi: Con; Ten_Linh_Kien: LM324 SOP14; Kieu_Chan: *; Ghi_Chu: *; Chung_Loai: Dán
footprint sop 14 (SOIC, 14-Leads, Body 8.60x3.90mm, Pitch 1.27mm, IPC Medium Density)
pins: 1 OutPut1, 2 In1-, 3 In1+, 4 V+, 5 In2+, 6 In2-, 7 OutPut2, 8 OutPut3, 9 In3-, 10 In3+, 11 GND, 12 In4+, 13 In4-, 14 OutPut4

## LM358 SOP8
designator IC?
Dán; Ma_Hang: MH000609; Don_Vi: Con; Ten_Linh_Kien: LM358 SOP8; Kieu_Chan: *; Ghi_Chu: *; Chung_Loai: Dán
footprint SOP 8
pins: 1 OutPutA, 2 InA-, 3 InA+, 4 VEE/Gnd, 5 InB+, 6 InB-, 7 OutPutB, 8 Vcc

## LM555 DIP
designator IC?
Dán; Don_Vi: Con; Ma_Hang: MH001514; Ten_Linh_Kien: LM555; Ghi _Chu: *; Kieu_Chan: *; Chung_Loai: Dán
footprint DIP8 (W.300/L.400)
pins: 1 GND (power), 2 TRIG, 3 OUT (out), 4 RST, 5 CONT, 6 THR, 7 DISC (oc), 8 VCC (power)
text: 555

## LM1085
designator U?
footprint LM1085
pins: 1 Adjust, 2 Ouput, 3 Input

## LM3914 DIP
designator IC?
Cắm; Ten_Linh_Kien: LM3914 DIP18; Don_Vi: Con; Ma_Hang: MH002419; Ghi_Chu: *; Kieu_Chan: *; Chung_Loai: Cắm
footprint DIP18 (18 PIN, W 300mil, Pin to pin 100mil)
pins: 1 ~{Y1}, 2 V-, 3 V+, 4 RL, 5 SIG, 6 RH, 7 OUT, 8 ADJ, 9 MODE, 10 ~{Y10}, 11 ~{Y9}, 12 ~{Y8}, 13 ~{Y7}, 14 ~{Y6}, 15 ~{Y5}, 16 ~{Y4}, 17 ~{Y3}, 18 ~{Y2}

## MAX803
designator U?
MAX803/MAX809/MAX810 Reset IC; Ten_Linh_Kien: C1815 SOT23 TRANS NPN 0.15A 50V (SMD-HF); Don_Vi: Con; Ma_Hang: MH000946; Chung_Loai: Dán; Ghi_Chu: *; Kieu_Chan: *
footprint SOT23BCE
pins: 1 GND, 2 VCC, 3 RST

## NAU8822
designator U?
footprint HVQFN-32_L5.0-W5.0-P0.50-BL-EP
pins: 1 LMICP, 2 LMICN, 3 LLIN/GPIO2, 4 RMICP, 5 RMICN, 6 RLIN/GPIO3, 7 FS, 8 BCLK, 9 ADCOUT, 10 DACIN, 11 MCLK, 12 VSSD, 13 VDDC, 14 VDDB, 15 CSB/GPIO1, 16 SCLK, 17 SDIO, 18 MODE, 19 LAUXIN, 20 RAUXIN, 21 AUXOUT1, 22 AUXOUT2, 23 RSPKOUT, 24 VSSSPK, 25 LSPKOUT, 26 VDDSPK, 27 VREF, 28 VSSA, 29 RHP, 30 LHP, 31 VDDA, 32 MICBIAS, 33 PAD
text: D

## PSRAM-LY68L6400S
designator U?, comment ESP-PSRAM64H
PSRAM-3V3 FOR ESP32; MANUFACTURER: CHINA; Manufacturer Part Number: PSRAM-3V3
footprint SOP 8 (SOIC, 8-Leads, Body 4.9x3.9mm, Pitch 1.27mm, IPC High Density)
pins: 1 CS#, 2 SO/SIO1, 3 SIO2, 4 VSS, 5 SI/SIO0, 6 SCLK, 7 SIO3, 8 VCC

## PT2248 DIP
designator IC?
Cắm; Ten_Linh_Kien: PT2248 DIP16; Don_Vi: Con; Ma_Hang: MH002843; Ghi_Chu: *; Kieu_Chan: *; Chung_Loai: Cắm
footprint DIP16 (16 PIN, W 300mil, Pin to pin 100mil)
pins: 1 VSS, 2 XT1, 3 XT2, 4 K1, 5 K2, 6 K3, 7 K4, 8 K5, 9 K6, 10 T1, 11 T2, 12 T3, 13 CODE, 14 TEST, 15 TX, 16 VCC

## PT2249 DIP
designator IC?, comment PT2249A
Cắm; Ten_Linh_Kien: PT2249A DIP16; Ma_Hang: MH002842; Don_Vi: Con; Ghi_Chu: *; Kieu_Chan: *; Chung_Loai: Cắm
footprint DIP16 (16 PIN, W 300mil, Pin to pin 100mil)
pins: 1 VSS, 2 RX-IN, 3 HP1, 4 HP2, 5 HP3, 6 HP4, 7 HP5, 8 SP5, 9 SP4, 10 SP3, 11 SP2, 12 SP1, 13 CODE2, 14 CODE3, 15 OSC, 16 VCC

## PT2262 DIP
designator IC?, comment SC2262 PT2262S
Dán; Don_Vi: Con; Ma_Hang: MH000739; Ten_Linh_Kien: SC2262 PT2262S; Ghi_Chu: *; Kieu_Chan: *; Chung_Loai: Dán
footprint DIP18 (18 PIN, W 300mil, Pin to pin 100mil)
pins: 1 A1, 2 A2, 3 A3, 4 A4, 5 A5, 6 A6, 7 A7/D5, 8 A8/D4, 9 GND, 10 A9/D3, 11 A10/D2, 12 A11/D1, 13 A12/D0, 14 ~{TE}, 15 OSC2, 16 OSC1, 17 DOUT, 18 VCC

## PT2272 DIP
designator IC?, comment PT2272-L4S SMD
Dán; Don_Vi: Con; Ma_Hang: MH000736; Ten_Linh_Kien: PT2272-L4S SMD; Kieu _Chan: *; Ghi_Chu: *; Chung_Loai: Dán
footprint DIP18 (18 PIN, W 300mil, Pin to pin 100mil)
pins: 1 A1, 2 A2, 3 A3, 4 A4, 5 A5, 6 A6, 7 A7, 8 A8, 9 GND, 10 A9/D3, 11 A10/D2, 12 A11/D1, 13 A12/D0, 14 DIN, 15 OSC2, 16 OSC1, 17 VT, 18 VCC

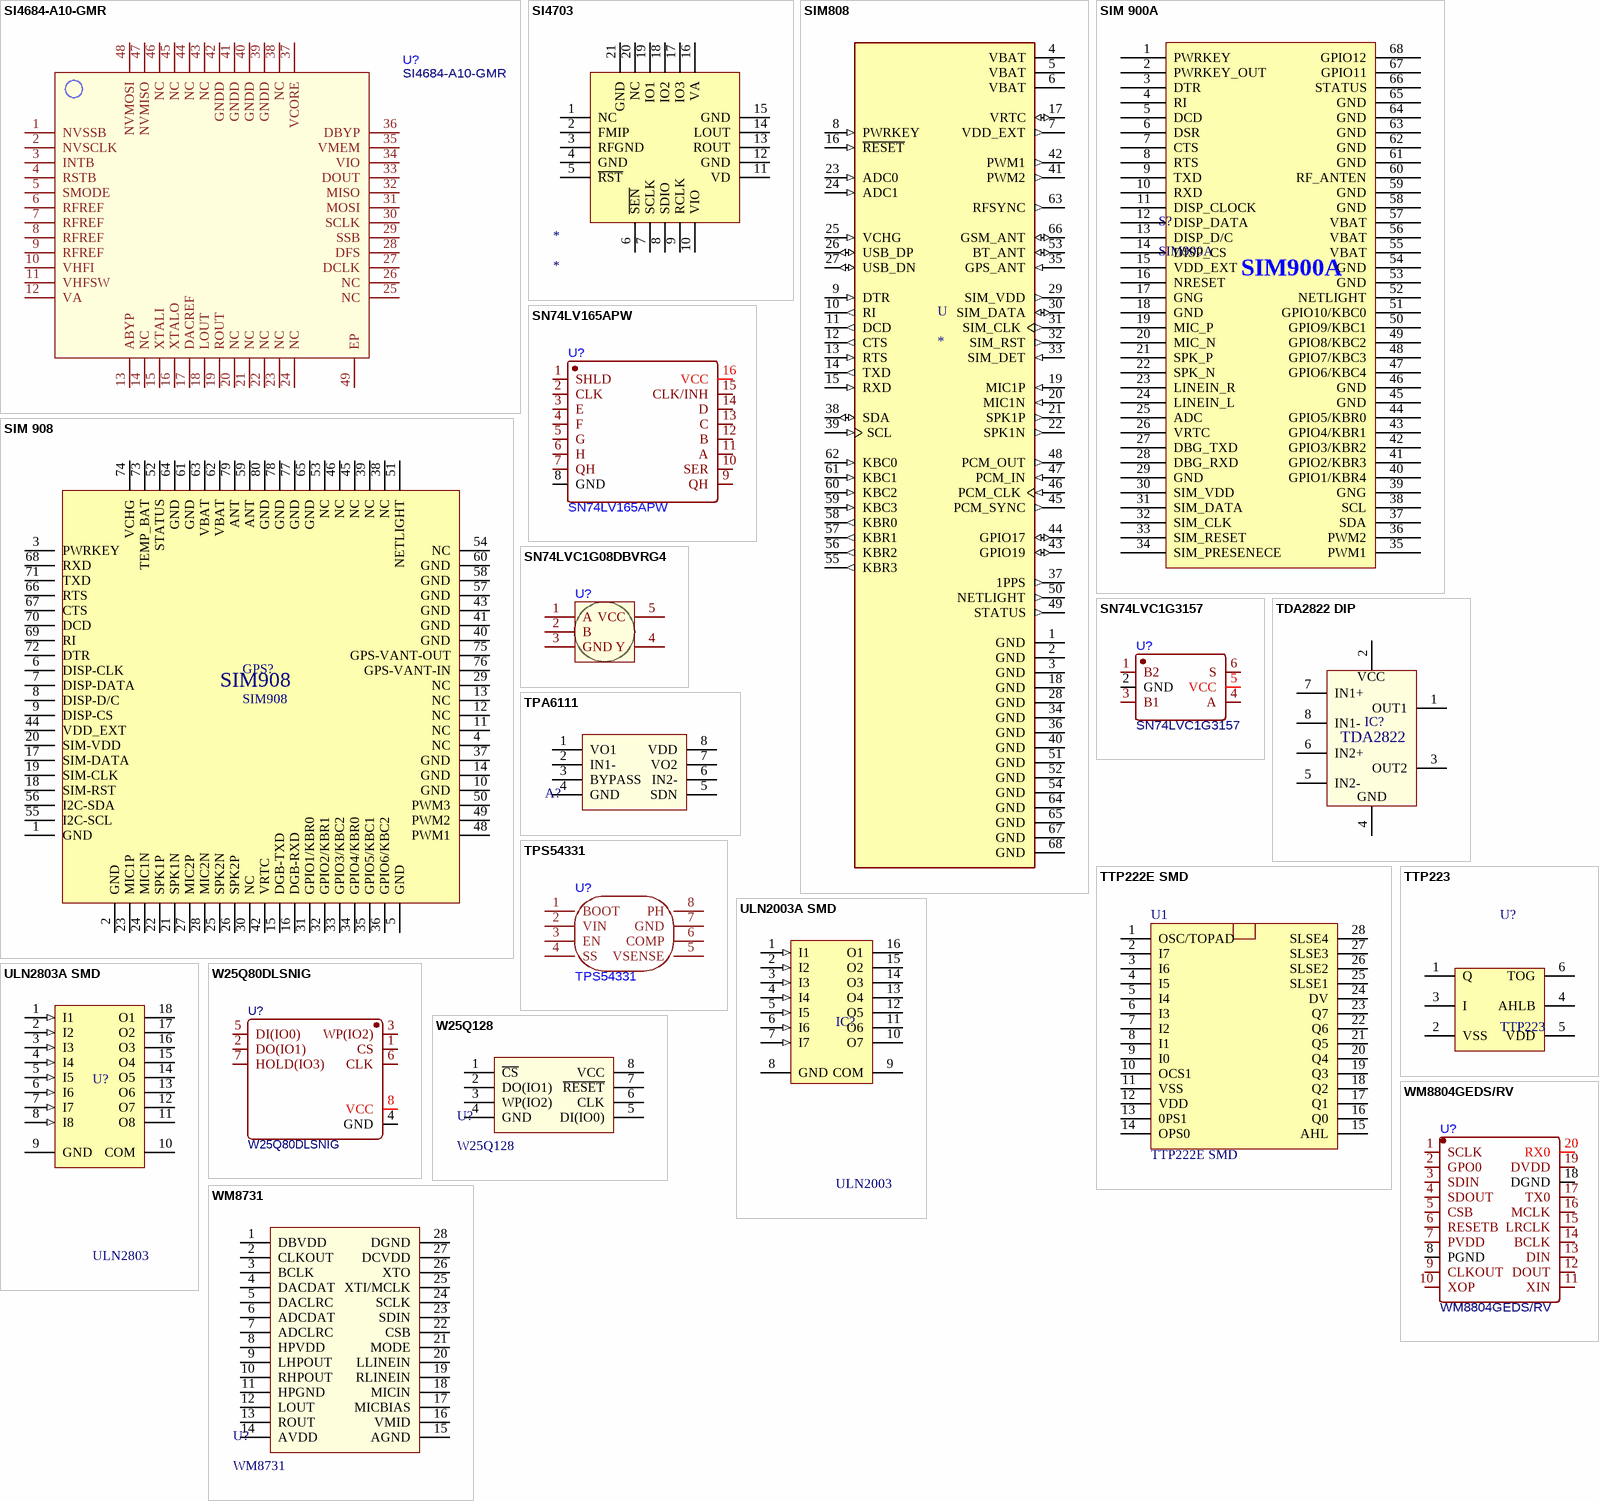
[diagram p6: symbols SI4684-A10-GMR to WM8804GEDS/RV]

## SI4684-A10-GMR
designator U?
footprint 48-VFQFN (7X7) EXPOSED PAD
pins: 1 NVSSB, 2 NVSCLK, 3 INTB, 4 RSTB, 5 SMODE, 6 RFREF, 7 RFREF, 8 RFREF, 9 RFREF, 10 VHFI, 11 VHFSW, 12 VA, 13 ABYP, 14 NC, 15 XTALI, 16 XTALO, 17 DACREF, 18 LOUT, 19 ROUT, 20 NC, 21 NC, 22 NC, 23 NC, 24 NC, 25 NC, 26 NC, 27 DCLK, 28 DFS, 29 SSB, 30 SCLK, 31 MOSI, 32 MISO, 33 DOUT, 34 VIO, 35 VMEM, 36 DBYP, 37 VCORE, 38 NC, 39 GNDD, 40 GNDD, 41 GNDD, 42 GNDD, 43 NC, 44 NC, 45 NC, 46 NC, 47 NVMISO, 48 NVMOSI, 49 EP

## SI4703
designator *
footprint SI4703 (QFN50P300X300X80-21N)
pins: 1 NC, 2 FMIP, 3 RFGND, 4 GND, 5 ~{RST}, 6 ~{SEN}, 7 SCLK, 8 SDIO, 9 RCLK, 10 VIO, 11 VD, 12 GND, 13 ROUT, 14 LOUT, 15 GND, 16 VA, 17 IO3, 18 IO2, 19 IO1, 20 NC, 21 GND

## SIM808
designator U
SIM808 GPS, GPRS/GSM RF Arduino Platform Evaluation Expansion Board; MF: Adafruit Industries; MP: SIM808; Package: None; SnapEDA_Link: https://www.snapeda.com/parts/SIM808/SIMcom%20Wireless%20solutions%20Co.%2CLtd/view-part/424834/?ref=snap; Availability: Unavailable; Price: None; Value: *
footprint SIM808
pins: 1 GND (power), 2 GND (power), 3 GND (power), 4 VBAT (power), 5 VBAT (power), 6 VBAT (power), 7 VDD_EXT (out), 8 PWRKEY (in), 9 DTR (in), 10 RI (out), 11 DCD (out), 12 CTS (out), 13 RTS (in), 14 TXD (out), 15 RXD (in), 16 ~{RESET} (in), 17 VRTC (io), 18 GND (power), 19 MIC1P (in), 20 MIC1N (in), 21 SPK1P (out), 22 SPK1N (out), 23 ADC0 (in), 24 ADC1 (in), 25 VCHG (in), 26 USB_DP (io), 27 USB_DN (io), 28 GND (power), 29 SIM_VDD (out), 30 SIM_DATA (io), 31 SIM_CLK (out), 32 SIM_RST (out), 33 SIM_DET (in), 34 GND (power), 35 GPS_ANT (in), 36 GND (power), 37 1PPS (out), 38 SDA (io), 39 SCL (in), 40 GND (power), 41 PWM2 (out), 42 PWM1 (out), 43 GPIO19 (io), 44 GPIO17 (io), 45 PCM_SYNC (out), 46 PCM_CLK (in), 47 PCM_IN (in), 48 PCM_OUT (out), 49 STATUS (out), 50 NETLIGHT (out), 51 GND (power), 52 GND (power), 53 BT_ANT (io), 54 GND (power), 55 KBR3 (out), 56 KBR2 (out), 57 KBR1 (out), 58 KBR0 (out), 59 KBC3 (in), 60 KBC2 (in), 61 KBC1 (in), 62 KBC0 (in), 63 RFSYNC (out), 64 GND (power), 65 GND (power), 66 GSM_ANT (io), 67 GND (power), 68 GND (power)

## SIM 900A
designator S?, comment SIM900A
Dán; Don_Vi: Con; Ma_Hang: MH001813; Ten_Linh_Kien: SIM900A; Ghi_Chu: *; Kieu_Chan: *; Chung_Loai: Dán
footprint sim900
pins: 1 PWRKEY, 2 PWRKEY_OUT, 3 DTR, 4 RI, 5 DCD, 6 DSR, 7 CTS, 8 RTS, 9 TXD, 10 RXD, 11 DISP_CLOCK, 12 DISP_DATA, 13 DISP_D/C, 14 DISP_CS, 15 VDD_EXT, 16 NRESET, 17 GNG, 18 GND, 19 MIC_P, 20 MIC_N, 21 SPK_P, 22 SPK_N, 23 LINEIN_R, 24 LINEIN_L, 25 ADC, 26 VRTC, 27 DBG_TXD, 28 DBG_RXD, 29 GND, 30 SIM_VDD, 31 SIM_DATA, 32 SIM_CLK, 33 SIM_RESET, 34 SIM_PRESENECE, 35 PWM1, 36 PWM2, 37 SDA, 38 SCL, 39 GNG, 40 GPIO1/KBR4, 41 GPIO2/KBR3, 42 GPIO3/KBR2, 43 GPIO4/KBR1, 44 GPIO5/KBR0, 45 GND, 46 GND, 47 GPIO6/KBC4, 48 GPIO7/KBC3, 49 GPIO8/KBC2, 50 GPIO9/KBC1, 51 GPIO10/KBC0, 52 NETLIGHT, 53 GND, 54 GND, 55 VBAT, 56 VBAT, 57 VBAT, 58 GND, 59 GND, 60 RF_ANTEN, 61 GND, 62 GND, 63 GND, 64 GND, 65 GND, 66 STATUS, 67 GPIO11, 68 GPIO12

## SIM 908
designator GPS?, comment SIM908
footprint SIM908
pins: 1 GND, 2 GND, 3 PWRKEY, 4 NC, 5 GND, 6 DISP-CLK, 7 DISP-DATA, 8 DISP-D/C, 9 DISP-CS, 10 GND, 11 NC, 12 NC, 13 NC, 14 GND, 15 DGB-TXD, 16 DGB-RXD, 17 SIM-DATA, 18 SIM-RST, 19 SIM-CLK, 20 SIM-VDD, 21 SPK1N, 22 SPK1P, 23 MIC1P, 24 MIC1N, 25 SPK2N, 26 SPK2P, 27 MIC2P, 28 MIC2N, 29 NC, 30 NC, 31 GPIO1/KBR0, 32 GPIO2/KBR1, 33 GPIO3/KBC2, 34 GPIO4/KBR0, 35 GPIO5/KBC1, 36 GPIO6/KBC2, 37 GND, 38 NC, 39 NC, 40 GND, 41 GND, 42 VRTC, 43 GND, 44 VDD_EXT, 45 NC, 46 NC, 48 PWM1, 49 PWM2, 50 PWM3, 51 NETLIGHT, 52 STATUS, 53 NC, 54 NC, 55 I2C-SCL, 56 I2C-SDA, 57 GND, 58 GND, 59 ANT "I/O", 60 GND, 61 GND, 62 VBAT, 63 VBAT, 64 GND, 65 GND, 66 RTS, 67 CTS, 68 RXD, 69 RI, 70 DCD, 71 TXD, 72 DTR, 73 TEMP_BAT, 74 VCHG, 75 GPS-VANT-OUT, 76 GPS-VANT-IN, 77 GND, 78 GND, 79 ANT "I", 80 GND

## SN74LV165APW
designator U?
footprint TSSOP-16
pins: 1 SHLD, 2 CLK, 3 E, 4 F, 5 G, 6 H, 7 QH, 8 GND, 9 QH, 10 SER, 11 A, 12 B, 13 C, 14 D, 15 CLK/INH, 16 VCC

## SN74LVC1G08DBVRG4
designator U?  (value not drawn)
footprint SOT-23-5
pins: 1 A, 2 B, 3 GND, 4 Y, 5 VCC

## SN74LVC1G3157
designator U?
footprint SOT 23- 6
pins: 1 B2, 2 GND, 3 B1, 4 A, 5 VCC, 6 S

## TDA2822 DIP
designator IC?, comment MH001571  (value not drawn)
Cắm; Value: TDA2822 12V
footprint DIP8 (W.300/L.400)
pins: 1 OUT1, 2 VCC, 3 OUT2, 4 GND "VCC", 5 IN2- "VCC", 6 IN2+ "VCC", 7 IN1+ "VCC", 8 IN1- "VCC"
text: TDA2822

## TPA6111
designator A?, comment Amplifier  (value not drawn)
150-mW Stereo Audio Power Amplifier
footprint TPA6111
pins: 1 VO1, 2 IN1-, 3 BYPASS, 4 GND, 5 SDN, 6 IN2-, 7 VO2, 8 VDD

## TPS54331
designator U?
footprint SO-8 TSP5430D (8-Pin Small Outline Integrated Circuit 1.27 mm Pitch, IPC Medium Density)
pins: 1 BOOT, 2 VIN, 3 EN, 4 SS, 5 VSENSE, 6 COMP, 7 GND, 8 PH

## TTP222E SMD
designator U1
Dán; Ten_Linh_Kien: TTP222E-807 SSOP28 IC TOUCH PAD; Don_Vi: Con; Ma_Hang: MH002738; Chung_Loai: Dán; Kieu_Chan: *; Ghi_Chu: *
footprint TSSOP28
pins: 1 OSC/TOPAD "Description", 2 I7, 3 I6, 4 I5, 5 I4, 6 I3, 7 I2, 8 I1, 9 I0, 10 OCS1, 11 VSS, 12 VDD, 13 0PS1, 14 OPS0, 15 AHL, 16 Q0, 17 Q1, 18 Q2, 19 Q3, 20 Q4, 21 Q5, 22 Q6, 23 Q7, 24 DV, 25 SLSE1, 26 SLSE2, 27 SLSE3, 28 SLSE4

## TTP223
designator U?
Half-Bridge Driver
footprint SOT23-6
pins: 1 Q, 2 VSS, 3 I, 4 AHLB, 5 VDD, 6 TOG

## ULN2003A SMD
designator IC?, comment ULN2003
Dán; Ten_Linh_Kien: ULN2003 SOP16; Don_Vi: Con; Ma_Hang: MH002408; Ghi_Chu: *; Chung_Loai: Dán; Kieu_Chan: *
footprint SOP 16 (SOIC, 16-Leads, Body 9.90x3.91mm, Pitch 1.27mm, IPC Medium Density)
pins: 1 I1 (in), 2 I2 (in), 3 I3 (in), 4 I4 (in), 5 I5 (in), 6 I6 (in), 7 I7 (in), 8 GND (power), 9 COM, 10 O7 (oc), 11 O6 (oc), 12 O5 (oc), 13 O4 (oc), 14 O3 (oc), 15 O2 (oc), 16 O1 (oc)

## ULN2803A SMD
designator U?, comment ULN2803
Dán; Ten_Linh_Kien: ULN2803AG SOP18; Ma_Hang: MH002406; Don_Vi: Con; Ghi_Chu: *; Chung_Loai: Dán; Kieu_Chan: *
footprint SOP 18 (SOIC, 18-Leads, Body 11.50x7.50mm, Pitch 1.27mm, IPC Medium Density)
pins: 1 I1 (in), 2 I2 (in), 3 I3 (in), 4 I4 (in), 5 I5 (in), 6 I6 (in), 7 I7 (in), 8 I8 (in), 9 GND (power), 10 COM, 11 O8 (oc), 12 O7 (oc), 13 O6 (oc), 14 O5 (oc), 15 O4 (oc), 16 O3 (oc), 17 O2 (oc), 18 O1 (oc)

## W25Q80DLSNIG
designator U?
C2641267; BOM_Manufacturer: Winbond Elec; BOM_Manufacturer Part: W25Q80DVSNIG; Contributor: Herbert Boks; BOM_Supplier: LCSC; BOM_Supplier Part: C115408; spicePre: U; spiceSymbolName: W25Q80DLSNIG
footprint SOP 8 (SOIC, 8-Leads, Body 4.9x3.9mm, Pitch 1.27mm, IPC High Density)
pins: 1 CS, 2 DO(IO1), 3 WP(IO2), 4 GND, 5 DI(IO0), 6 CLK, 7 HOLD(IO3), 8 VCC

## W25Q128
designator U?
footprint W25Q128 (SOIC, 8-Leads, Body 5.38x5.33mm, Pitch 1.27mm, IPC Medium Density)
pins: 1 ~{CS}, 2 DO(IO1), 3 WP(IO2), 4 GND, 5 DI(IO0), 6 CLK, 7 ~{RESET}, 8 VCC

## WM8731
designator U?
The WM8731 or WM8731L (WM8731/L) are low power / stereo CODECs with an integrated headphone driver
footprint WM8731
pins: 1 DBVDD, 2 CLKOUT, 3 BCLK, 4 DACDAT, 5 DACLRC, 6 ADCDAT, 7 ADCLRC, 8 HPVDD, 9 LHPOUT, 10 RHPOUT, 11 HPGND, 12 LOUT, 13 ROUT, 14 AVDD, 15 AGND, 16 VMID, 17 MICBIAS, 18 MICIN, 19 RLINEIN, 20 LLINEIN, 21 MODE, 22 CSB, 23 SDIN, 24 SCLK, 25 XTI/MCLK, 26 XTO, 27 DCVDD, 28 DGND

## WM8804GEDS/RV
designator U?
footprint SSOP-20_L7.2-W5.3-P0.65-LS7.8-BL
pins: 1 SCLK, 2 GPO0, 3 SDIN, 4 SDOUT, 5 CSB, 6 RESETB, 7 PVDD, 8 PGND, 9 CLKOUT, 10 XOP, 11 XIN, 12 DOUT, 13 DIN, 14 BCLK, 15 LRCLK, 16 MCLK, 17 TX0, 18 DGND, 19 DVDD, 20 RX0